# Altium schematic symbol library SCH - CHOKE - LAIRD CMA0805.SchLib: 1 symbol
Pins are listed as number, name and electrical type; pins without a type are passive.

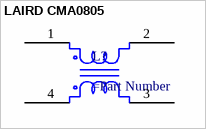
[diagram p0: symbol LAIRD CMA0805]

## LAIRD CMA0805
designator L?
pins: 1, 2, 3, 4